# EAGLE library part GAUGE (library lipo)
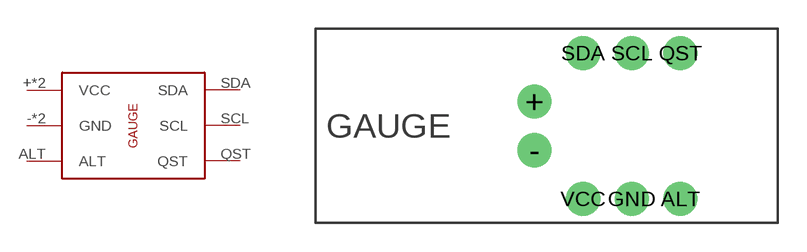
[diagram p4: symbol with the pads of GAUGE; footprint GAUGE]

Designator prefix -

## GAUGE  [GAUGE]
+  VCC
-  GND
ALT  ALT
GND  GND
QST  QST
SCL  SCL
SDA  SDA
VCC  VCC

## Footprint GAUGE (pad centres in mm)
drill 0.8 pad 1.778: + -3.81,1.27; - -3.81,-1.27; ALT 3.81,-3.81; GND 1.27,-3.81; QST 3.81,3.81; SCL 1.27,3.81; SDA -1.27,3.81; VCC -1.27,-3.81